# Altium schematic symbol library UAV_STM_Sheild.SCHLIB: 9 symbols
Pins are listed as number, name and electrical type; pins without a type are passive.

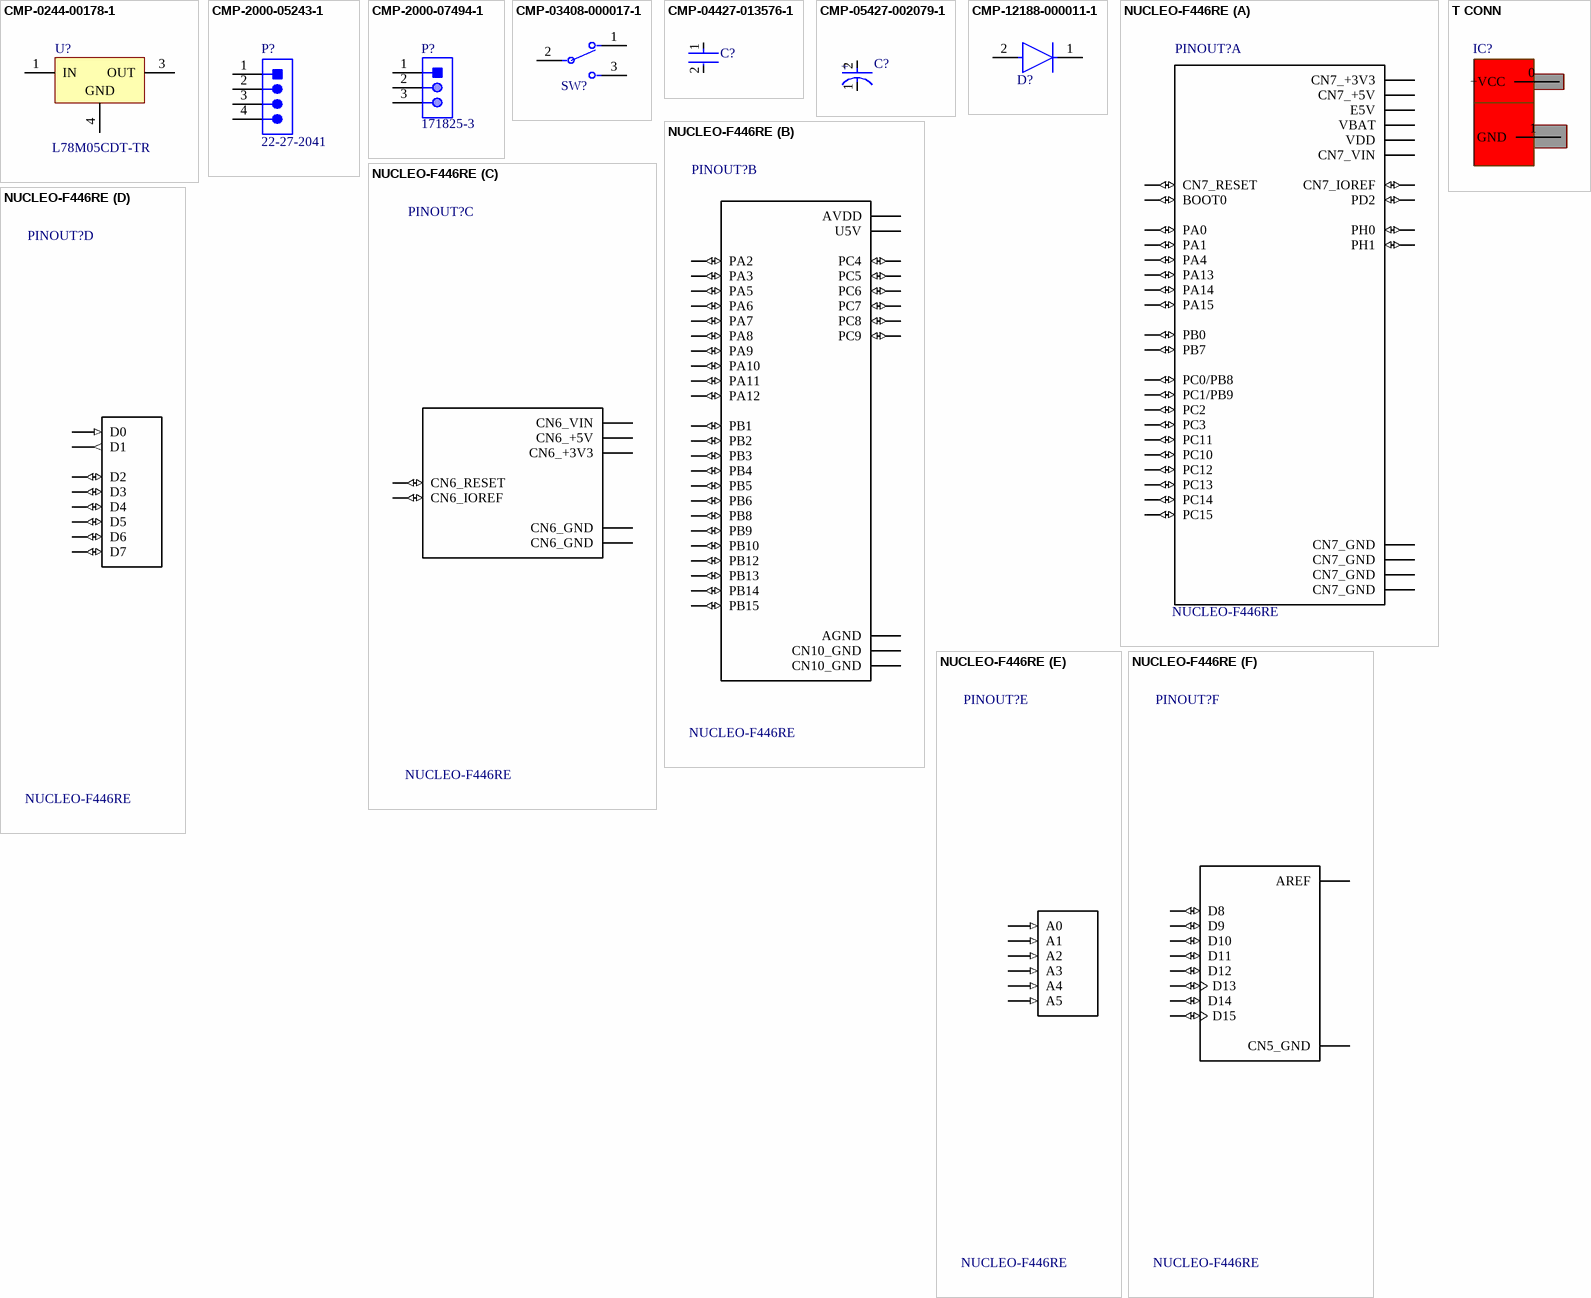
[diagram p0: symbols CMP-0244-00178-1 to T CONN]

## CMP-0244-00178-1
designator U?, comment L78M05CDT-TR
Positive Voltage Regulator, 5V, 3-Pin DPAK, Tape and Reel; Manufacturer: STMicroelectronics; PackageReference: TO-252; ComponentLink1URL: http://www.st.com; ComponentLink2Description: Datasheet; PackageDescription: 3-Pin Transistor Outline Package 2.28 mm Pitch, 9.7 mm Lead Span (DPAK); ComponentLink1Description: Manufacturer URL; DatasheetVersion: 1/11/2010; ComponentLink2URL: http://www.st.com/internet/com/TECHNICAL_RESOURCES/TECHNICAL_LITERATURE/DATASHEET/CD00000447.pdf; PackageVersion: 2011; Manufacturer Part Number: L78M05CDT-TR
footprint TO-252_L (D-PAK, 4-Leads, Body 6.1x6.5mm, Pitch 2.28mm, Lead Span 9.7mm, IPC High Density)
footprint TO-252_N (D-PAK, 4-Leads, Body 6.1x6.5mm, Pitch 2.28mm, Lead Span 9.7mm, IPC Medium Density)
footprint TO-252_M (D-PAK, 4-Leads, Body 6.1x6.5mm, Pitch 2.28mm, Lead Span 9.7mm, IPC Low Density)
pins: 1 IN (power), 3 OUT (power), 4 GND (power)

## CMP-2000-05243-1
designator P?, comment 22-27-2041
Male Header, Pitch 2.54 mm, 1 x 4 Position, Height 11.7 mm, Tail Length 3.56 mm, RoHS, Bulk; Manufacturer: Molex; Voltage rating: 250V; Current rating: 4A; Datasheet Version: Rev. F, 06/2009; Operating temperature: 0degCto+75degC; Contact material: Tinplatedbrass; Manufacturer URL: http://www.molex.com/; Housing material: Nylon(UL94V-0); Datasheet URL: http://www.molex.com/pdm_docs/sd/022272041_sd.pdf; Manufacturer Part Number: 22-27-2041
footprint MOLX-22-27-2041_V (CONN, 4-Leads, Body 10.16x5.8mm, Pitch 2.54mm)
pins: 1, 2, 3, 4

## CMP-2000-07494-1
designator P?, comment 171825-3
Male Header, Pitch 2.5 mm, 1 x 3 Position, Height 10.4 mm, Tail Length 3.6 mm, / -20 to 95 degC / , RoHS, Bulk; Manufacturer: TE Connectivity; Mating Alignment: Yes(With); Tail Length: 0.142inch; Mating Post Length: 7.5mm; PCB Thickness: 0.063inch; PCB Mount Alignment: No(Without); Voltage Rating: 350V; Max Voltage Rating (AC): 250V; Plating Thickness: 0.8um; PCB Mounting Orientation: Vertical; Number of Positions: 3; PCB Mount Retention: Without; Max Current Rating: 3.5A; Max Voltage Rating (DC): 350.25kV; Pitch: 2.5mm; Approvals: UL; Contact Resistance: 20mOhm; Mount: ThroughHole; Length: 7.5mm; Orientation: Straight; Contact Mating Length: 0.295inch; Contact Material: Brass; Housing Material: Nylon; Package Description: Male Header, Pitch 2.5 mm, 1 x 3 Position, Height 10.4 mm, Tail Length 3.6 mm; Colour: Natural; Backwall/Post Interruptions: No(Without); Min Operating Temperature: -20degC; Mating Retention: Yes(With); Connector Type: Header; Packaging: Bag; RoHSCompliant: True; Package Reference: 171825-3; Contact Shape: Square; Strain Relief: No(Without); Contact Gender: Male; Number of Contacts: 3; Manufacturer URL: http://www.te.com/; Height: 0.409inch; Contact Retention: No(Without); Datasheet Version: Rev. Y3, 12/2016; Panel Mount Retention: No(Without); Datasheet URL: http://www.te.com/commerce/DocumentDelivery/DDEController?Action=showdoc&DocId=Customer+Drawing%7F171825%7FY3%7Fpdf%7FEnglish%7FENG_CD_171825_Y3.pdf%7F171825-3; Termination: Solder; Mounting Technology: ThroughHole; Max Operating Temperature: 95degC; Flammability Rating: UL94V-0; REACH SVHC: NoSVHC; Housing Colour: Natural; Package Quantity: 1000; Number of Rows: 1; Depth: 4.9mm; Contact Plating: Tin; Manufacturer Part Number: 171825-3
footprint TECO-171825-3_V (Connector, 3-Leads, Body 4.9x7.5mm, Pitch 2.5mm)
pins: 1, 2, 3

## CMP-03408-000017-1
designator SW?, comment A101SYCB04  (value not drawn)
SWITCH TOGGLE SPDT 0.4VA 20V; Manufacturer: TE Connectivity; Electrical Life: 6000Cycles; Number of Poles: 1; Power Rating: 400mW; Switch Function: On-On; Contact Resistance: 10mR; Contact Current Rating: 400mA; Actuator Material: Phenolic; Insulation Resistance: 30MR; Actuator Color: Chrome; Number of Positions: 2; Actuator Type: Standard Round; Actuator Length: 10.41mm; Illumination Type: Non-Illuminated; Flammability Rating: UL94 V-1; Contact Material: Copper; Depth: 6.86mm; Contact Plating: Gold; Voltage Rating (AC): 20V; Max Voltage Rating (DC): 20V; Min Operating Temperature: -30°C; Max Operating Temperature: 85°C; Throw Configuration: SPDT; Packaging: Bulk; Termination: PC Pins; Series: Gemini A; ELV: Compliant; Lead Free: Lead Free; RoHS Compliant: Yes; REACH SVHC: No SVHC; Mount: Panel; Orientation: Straight; Package Quantity: 100; Max Voltage Rating (AC): 20V; Radiation Hardening: No; Voltage Rating (DC): 20V; Manufacturer Part Number: A101SYCB04
footprint FP-A101SYCB04-MFG
pins: 1, 2, 3

## CMP-04427-013576-1
designator C?, comment 12061C104JAT2A  (value not drawn)
General Purpose Ceramic Capacitor, 1206, 100nF, 5%, X7R, 15%, 100V; Manufacturer: Kyocera AVX; Max Operating Temperature: 125°C; Depth: 1.6mm; Package Quantity: 1; Thickness: 0.05inch; Number of Pins: 2; Height: 1.27mm; Voltage Rating (DC): 100V; Radiation Hardening: No; Termination: SMD/SMT; Construction: Flat; REACH SVHC: No SVHC; Case/Package: 1206; Case Code (Imperial): 1206; Tolerance: 5%; Width: 0.063inch; Voltage: 100V; Packaging: Tape and Reel; Voltage Rating: 100V; Case Code (Metric): 3216; Capacitance: 100nF; Min Operating Temperature: -55°C; Length: 3.2mm; Dielectric: X7R; Mount: Surface Mount; Dielectric Material: Ceramic; Contact Plating: Tin; RoHS Compliant: Yes; Lead Free: Lead Free; Series: -; Manufacturer Part Number: 12061C104JAT2A
footprint FP-1206-L_3_2_0_2-W_1_6_0-IPC_C
footprint FP-1206-L_3_2_0_2-W_1_6_0-IPC_B
footprint FP-1206-L_3_2_0_2-W_1_6_0-MFG
footprint FP-1206-L_3_2_0_2-W_1_6_0-IPC_A
pins: 1, 2

## CMP-05427-002079-1
designator C?, comment EEUFR1H101  (value not drawn)
Aluminum Electrolytic Capacitors (Radial Lead Type) 100uF ±20% 50V; Manufacturer: Panasonic; Manufacturer Part Number: EEU-FR1H101; ESR (Equivalent Series Resistance): 61mR; Lead Diameter: 0.6mm; Ripple Current (AC): 870mA; Life (Hours): 6000Hour; Lead/Base Style: Straight; Height - Seated (Max): 0.512inch; Height: 11.5mm; REACH SVHC: No SVHC; Contact Plating: Tin; Impedance: 61mR; Capacitance: 100uF; Voltage: 50V; Termination: Radial; Series: FR; Voltage Rating: 50V; Lead Pitch: 3.5mm; Diameter: 8mm; Number of Pins: 2; Min Operating Temperature: -40°C; Mount: Through Hole; Ripple Current: 870mA; Radiation Hardening: No; Length: 11.5mm; Max Operating Temperature: 105°C; Construction: RADIAL; Packaging: Bulk; Package Quantity: 200; Case/Package: Radial; RoHS Compliant: Yes; Voltage Rating (DC): 50V; Tolerance: 20%
footprint FP-RAD-TH-D_8_0_5-L_11_5-MFG
pins: 1 C, 2 A
text: +

## CMP-12188-000011-1
designator D?, comment STTH1L06U  (value not drawn)
DIODE GEN PURP 600V 1A SMB; Manufacturer: STMicroelectronics; Peak Reverse Current: 1uA; Max Junction Temp: +175°C; Max Surge Forward Current: 20A; Standoff Height: 0.05mm; Temperature Range High: +175°C; Manufacturer Part Number: STTH1L06U; Device Class L1: Discrete Semiconductors; Lead Free: Yes; Max Repetitive Reverse Voltage: 600V; Mouser Description: STTH1L06 Series 1 A 1.05 V 80 ns Turbo 2 Ultrafast Rectifier SMT - DO-214AA; Temperature: to +175°C; ComponentLink2URL: https://www.st.com/resource/en/datasheet/stth1l06.pdf; Reverse Voltage: 600V; Device Class L3: Rectifier Diodes; Device Class L2: Diodes; Automotive: No; Category: Diode; RoHS: TRUE; Height: 2.65mm; ComponentLink2Description: Datasheet; Octopart: https://octopart.com/stth1l06u-stmicroelectronics-324444; Digikey Description: DIODE GEN PURP 600V 1A SMB; Package: SMB; Forward Current: 1A
footprint FP-SMB-MFG
pins: 1 C, 2 A

## NUCLEO-F446RE
designator PINOUT?
Check_prices: https://www.snapeda.com/parts/NUCLEO-F446RE/STMicroelectronics/view-part/?ref=eda; SnapEDA_Link: https://www.snapeda.com/parts/NUCLEO-F446RE/STMicroelectronics/view-part/?ref=snap; Value: *
footprint *MODULE_NUCLEO-F446RE_NUCLEO-F446RE(Primary)
part A pins: CN7_1 PC10 (io), CN7_2 PC11 (io), CN7_3 PC12 (io), CN7_4 PD2 (io), CN7_5 VDD (power), CN7_6 E5V (power), CN7_7 BOOT0 (io), CN7_8 CN7_GND (power), CN7_12 CN7_IOREF (io), CN7_13 PA13 (io), CN7_14 CN7_RESET (io), CN7_15 PA14 (io), CN7_16 CN7_+3V3 (power), CN7_17 PA15 (io), CN7_18 CN7_+5V (power), CN7_19 CN7_GND (power), CN7_20 CN7_GND (power), CN7_21 PB7 (io), CN7_22 CN7_GND (power), CN7_23 PC13 (io), CN7_24 CN7_VIN (power), CN7_25 PC14 (io), CN7_27 PC15 (io), CN7_28 PA0 (io), CN7_29 PH0 (io), CN7_30 PA1 (io), CN7_31 PH1 (io), CN7_32 PA4 (io), CN7_33 VBAT (power), CN7_34 PB0 (io), CN7_35 PC2 (io), CN7_36 PC1/PB9 (io), CN7_37 PC3 (io), CN7_38 PC0/PB8 (io)
part B pins: CN10_1 PC9 (io), CN10_2 PC8 (io), CN10_3 PB8 (io), CN10_4 PC6 (io), CN10_5 PB9 (io), CN10_6 PC5 (io), CN10_7 AVDD (power), CN10_8 U5V (power), CN10_9 CN10_GND (power), CN10_11 PA5 (io), CN10_12 PA12 (io), CN10_13 PA6 (io), CN10_14 PA11 (io), CN10_15 PA7 (io), CN10_16 PB12 (io), CN10_17 PB6 (io), CN10_19 PC7 (io), CN10_20 CN10_GND (power), CN10_21 PA9 (io), CN10_22 PB2 (io), CN10_23 PA8 (io), CN10_24 PB1 (io), CN10_25 PB10 (io), CN10_26 PB15 (io), CN10_27 PB4 (io), CN10_28 PB14 (io), CN10_29 PB5 (io), CN10_30 PB13 (io), CN10_31 PB3 (io), CN10_32 AGND (power), CN10_33 PA10 (io), CN10_34 PC4 (io), CN10_35 PA2 (io), CN10_37 PA3 (io)
part C pins: CN6_2 CN6_IOREF (io), CN6_3 CN6_RESET (io), CN6_4 CN6_+3V3 (power), CN6_5 CN6_+5V (power), CN6_6 CN6_GND (power), CN6_7 CN6_GND (power), CN6_8 CN6_VIN (power)
part D pins: CN9_1 D0 (in), CN9_2 D1 (out), CN9_3 D2 (io), CN9_4 D3 (io), CN9_5 D4 (io), CN9_6 D5 (io), CN9_7 D6 (io), CN9_8 D7 (io)
part E pins: CN8_1 A0 (in), CN8_2 A1 (in), CN8_3 A2 (in), CN8_4 A3 (in), CN8_5 A4 (in), CN8_6 A5 (in)
part F pins: CN5_1 D8 (io), CN5_2 D9 (io), CN5_3 D10 (io), CN5_4 D11 (io), CN5_5 D12 (io), CN5_6 D13 (io), CN5_7 CN5_GND (power), CN5_8 AREF (power), CN5_9 D14 (io), CN5_10 D15 (io)

## T CONN
designator IC?  (value not drawn)
footprint Edge Connector
pins: 0 +VCC, 1 GND